# Altium schematic symbol library Schlib.SchLib: 37 symbols (part 4 of 4)
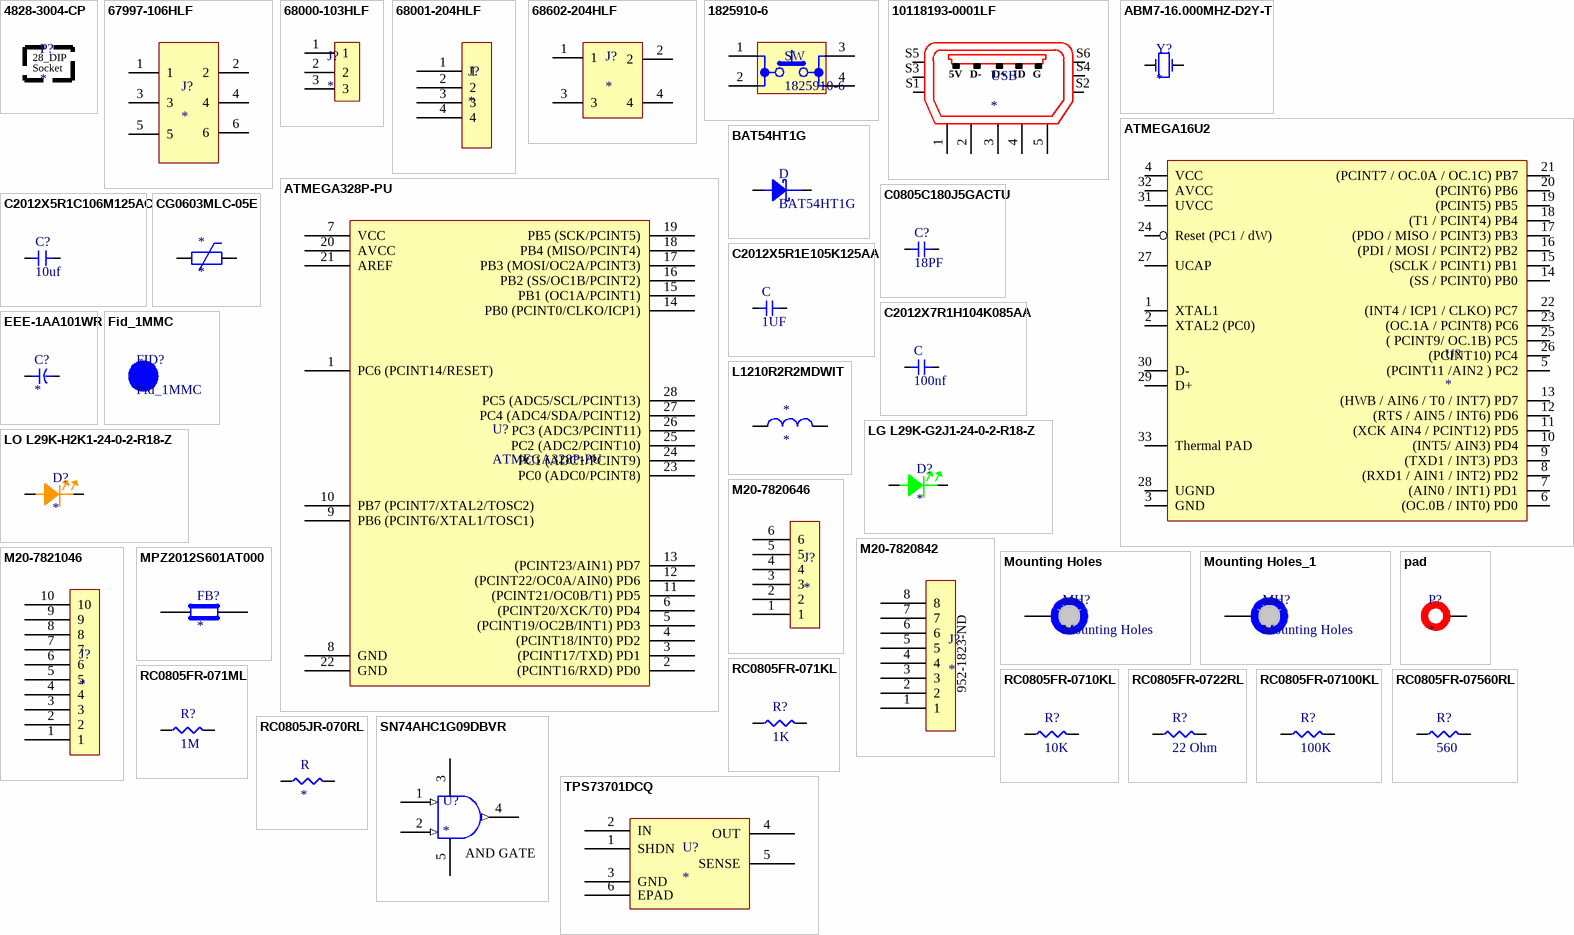
[diagram p3: symbols 4828-3004-CP to TPS73701DCQ]

## SN74AHC1G09DBVR
designator U?
1-ch, 2-input 2-V to 5.5-V high-speed (9 ns) AND gate with open-drain outputs 5-SOT-23 -55 to 125; Manufacturer: Texas Instruments; Manufacturer Part Number: SN74AHC1G09DBVR; Manufacturer Lifecycle Status: ACTIVE; Low Level Output Current: 8mA; Max Junction Temperature (Tj): 150°C; Max Supply Voltage: 5.5V; Min Supply Voltage: 2V; Nominal Supply Current: 1µA; Number of Bits: 1; Number of Inputs: 2; Output Current: 25mA; Propagation Delay: 4.6ns; Supplier 1: Arrow Electronics; RoHS: Compliant; Category: Logic Gates; Stock 1: 3; Pricing 1: 1=0.04 (USD); Ambient Temperature Range High: 125°C; Case/Package: SOT-23; Contact Plating: Tin; Height: 1.45mm; Lead Free: Lead Free; Length: 2.9mm; Lifecycle Status: Production; Logic Function: AND; Max Operating Temperature: 125°C; Min Operating Temperature: -55°C; Mount: Surface Mount; Number of Channels: 1; Number of Circuits: 1; Number of Elements: 1; Number of Gates: 1; Number of Outputs: 1; Number of Pins: 5; Output Voltage: 5.5V; Quiescent Current: 1µA; Radiation Hardening: No; REACH SVHC: No; Schedule B: 8542390000, 8542390000|8542390000|8542390000|8542390000|8542390000; Thickness: 1.2mm; Width: 1.6mm; ComponentLink1URL: https://sigma.octopart.com:443/177332311/technical_drawing/Texas-Instruments-SN74AHC1G09DBVR.pdf?src-supplier=Texas+Instruments; ComponentLink1Description: https://sigma.octopart.com:443/177332311/technical_drawing/Texas-Instruments-SN74AHC1G09DBVR.pdf?src-supplier=Texas+Instruments; ComponentLink2URL: https://octopart.com:443/opatz8j6/c1?t=L0Xi2RvRu8Qw2bZQUZEEiSubo051ntShcxDhO9UIYWrGm4Aalb6CVRY-OzDcgrflgwlN3NeHJfSCMu_zf08kyRY_HMG5hxIbCYHSgsuAqTeJsOj2I9BPz2QwrKnZHclgiJgJ3R_f9jPMwMx2S-2V4BzxsJFM7DFQVZ6AWOBElNrPP7IDG532tr2r0D6YaYxrLTduuSRCPQyUabvBQCW2vkPesCr-3PI72uJGfYHom96gh-ikychyHwwmevOZaMVQuDX6ZScYN0b-25bIuEC70LKLxNZnVnZt6sWJDhI3S59CEB92smmmNy-BXEUBWjmztVVkLHWce7jcadcnLtwQKsGXrJZC-4vWOeVLVNI_MPxmuwIx2inFAH7CCcW2USWv0SzEKBhQme3B&src-supplier=Texas+Instruments; ComponentLink2Description: https://octopart.com:443/opatz8j6/c1?t=L0Xi2RvRu8Qw2bZQUZEEiSubo051ntShcxDhO9UIYWrGm4Aalb6CVRY-OzDcgrflgwlN3NeHJfSCMu_zf08kyRY_HMG5hxIbCYHSgsuAqTeJsOj2I9BPz2QwrKnZHclgiJgJ3R_f9jPMwMx2S-2V4BzxsJFM7DFQVZ6AWOBElNrPP7IDG532tr2r0D6YaYxrLTduuSRCPQyUabvBQCW2vkPesCr-3PI72uJGfYHom96gh-ikychyHwwmevOZaMVQuDX6ZScYN0b-25bIuEC70LKLxNZnVnZt6sWJDhI3S59CEB92smmmNy-BXEUBWjmztVVkLHWce7jcadcnLtwQKsGXrJZC-4vWOeVLVNI_MPxmuwIx2inFAH7CCcW2USWv0SzEKBhQme3B&src-supplier=Texas+Instruments; ComponentLink3URL: https://datasheet.octopart.com:443/SN74AHC1G09DBVR-Texas-Instruments-datasheet-37726925.pdf?src-supplier=Texas+Instruments; ComponentLink3Description: https://datasheet.octopart.com:443/SN74AHC1G09DBVR-Texas-Instruments-datasheet-37726925.pdf?src-supplier=Texas+Instruments; ComponentLink4URL: https://sigma.octopart.com:443/175570406/technical_drawing/Texas-Instruments-SN74AHC1G09DBVR.pdf?src-supplier=Texas+Instruments; ComponentLink4Description: https://sigma.octopart.com:443/175570406/technical_drawing/Texas-Instruments-SN74AHC1G09DBVR.pdf?src-supplier=Texas+Instruments; ComponentLink5URL: https://sigma.octopart.com:443/169406034/technical_drawing/Texas-Instruments-SN74AHC1G09DBVR.pdf?src-supplier=Texas+Instruments; ComponentLink5Description: https://sigma.octopart.com:443/169406034/technical_drawing/Texas-Instruments-SN74AHC1G09DBVR.pdf?src-supplier=Texas+Instruments; ComponentLink6URL: https://sigma.octopart.com:443/155939316/technical_drawing/Texas-Instruments-SN74AHC1G09DBVR.pdf?src-supplier=Texas+Instruments; ComponentLink6Description: https://sigma.octopart.com:443/155939316/technical_drawing/Texas-Instruments-SN74AHC1G09DBVR.pdf?src-supplier=Texas+Instruments; ComponentLink7URL: https://sigma.octopart.com:443/102331370/technical_drawing/Texas-Instruments-SN74AHC1G09DBVR.pdf?src-supplier=Texas+Instruments; ComponentLink7Description: https://sigma.octopart.com:443/102331370/technical_drawing/Texas-Instruments-SN74AHC1G09DBVR.pdf?src-supplier=Texas+Instruments; ComponentLink8URL: https://sigma.octopart.com:443/49249325/technical_drawing/Texas-Instruments-SN74AHC1G09DBVR.pdf?src-supplier=Texas+Instruments; ComponentLink8Description: https://sigma.octopart.com:443/49249325/technical_drawing/Texas-Instruments-SN74AHC1G09DBVR.pdf?src-supplier=Texas+Instruments; ComponentLink9URL: https://datasheet.octopart.com:443/SN74AHC1G09DBVR-Texas-Instruments-datasheet-21221312.pdf?src-supplier=Upverter; ComponentLink9Description: https://datasheet.octopart.com:443/SN74AHC1G09DBVR-Texas-Instruments-datasheet-21221312.pdf?src-supplier=Upverter; ComponentLink10URL: https://datasheet.octopart.com:443/SN74AHC1G09DBVR-Texas-Instruments-datasheet-62088831.pdf?src-supplier=Newark; ComponentLink10Description: https://datasheet.octopart.com:443/SN74AHC1G09DBVR-Texas-Instruments-datasheet-62088831.pdf?src-supplier=Newark; ComponentLink11URL: https://datasheet.octopart.com:443/SN74AHC1G09DBVR-Texas-Instruments-datasheet-33010737.pdf?src-supplier=Newark; ComponentLink11Description: https://datasheet.octopart.com:443/SN74AHC1G09DBVR-Texas-Instruments-datasheet-33010737.pdf?src-supplier=Newark; ComponentLink12URL: https://datasheet.octopart.com:443/SN74AHC1G09DBVR-Texas-Instruments-datasheet-159115775.pdf?src-supplier=SHENGYU+ELECTRONICS; ComponentLink12Description: https://datasheet.octopart.com:443/SN74AHC1G09DBVR-Texas-Instruments-datasheet-159115775.pdf?src-supplier=SHENGYU+ELECTRONICS; ComponentLink13URL: https://datasheet.octopart.com:443/SN74AHC1G09DBVR-Texas-Instruments-datasheet-165804331.pdf?src-supplier=LCSC; ComponentLink13Description: https://datasheet.octopart.com:443/SN74AHC1G09DBVR-Texas-Instruments-datasheet-165804331.pdf?src-supplier=LCSC; ComponentLink14URL: https://datasheet.octopart.com:443/SN74AHC1G09DBVR-Texas-Instruments-datasheet-140571641.pdf?src-supplier=Arrow.cn; ComponentLink14Description: https://datasheet.octopart.com:443/SN74AHC1G09DBVR-Texas-Instruments-datasheet-140571641.pdf?src-supplier=Arrow.cn; ComponentLink15URL: https://datasheet.octopart.com:443/SN74AHC1G09DBVR-Texas-Instruments-datasheet-11780427.pdf?src-supplier=Arrow+Electronics; ComponentLink15Description: https://datasheet.octopart.com:443/SN74AHC1G09DBVR-Texas-Instruments-datasheet-11780427.pdf?src-supplier=Arrow+Electronics; ComponentLink16URL: http://sigma.octopart.com:80/conflict_mineral_statement/Texas-Instruments-company-63.pdf?src-supplier=Compliance+Statements; ComponentLink16Description: http://sigma.octopart.com:80/conflict_mineral_statement/Texas-Instruments-company-63.pdf?src-supplier=Compliance+Statements; ComponentLink17URL: http://sigma.octopart.com:80/reach_statement/Texas-Instruments-company-64.pdf?src-supplier=Compliance+Statements; ComponentLink17Description: http://sigma.octopart.com:80/reach_statement/Texas-Instruments-company-64.pdf?src-supplier=Compliance+Statements; Supplier Part Number 1: SN74AHC1G09DBVR
footprint AND
pins: 1 (in), 2 (in), 3, 4 (out), 5
text: AND GATE

## TPS73701DCQ
designator U?
Low Drop Out (LDO) Regulator Position 1.2 Volt to 5.5 Volt 1A 6-Pin(5+Tab) SOT-223; Manufacturer: Texas Instruments; Manufacturer Part Number: TPS73701DCQ; Manufacturer Lifecycle Status: ACTIVE; Accuracy: 3%; Dropout Voltage: 130mV; Input Bias Current: 300µA; Max Input Voltage: 5.5V; Max Power Dissipation: 2.22W; Min Current Limit: 1.05A; Min Input Voltage: 2.2V; Min Output Voltage: 1.2V; Number of Channels: 1; Output Type: Adjustable; Output Voltage Accuracy: 1%; Polarity: Positive; Reference Voltage: 1.21V; Supplier 1: DigiKey; RoHS: Compliant; Category: LDO Voltage Regulators; Stock 1: 8850; Pricing 1: 1=2.16, 10=1.596, 78=1.32397, 156=1.26244, 312=1.2117, 546=1.1774, 1014=1.14523, 2574=1.10623, 5070=1.08362 (USD); Case/Package: SOT-223; Height: 0m; Lead Free: Lead Free; Length: 6.5mm; Lifecycle Status: Production; Max Operating Temperature: 125°C; Max Output Current: 1A; Max Output Voltage: 5.5V; Min Operating Temperature: -40°C; Number of Outputs: 1; Number of Pins: 6; Number of Regulators: 1; Number of Terminals: 6; Output Current: 1A; Output Voltage: 5.5V; Packaging: Cut Tape; Power Dissipation: 2.22W; Quiescent Current: 300µA; Radiation Hardening: No; REACH SVHC: No; Schedule B: 8542390000, 8542390000|8542390000|8542390000|8542390000|8542390000; Thickness: 1.6mm; Width: 3.5mm; ComponentLink1URL: https://sigma.octopart.com:443/157894086/technical_drawing/Texas-Instruments-TPS73701DCQ.pdf?src-supplier=Texas+Instruments; ComponentLink1Description: https://sigma.octopart.com:443/157894086/technical_drawing/Texas-Instruments-TPS73701DCQ.pdf?src-supplier=Texas+Instruments; ComponentLink2URL: https://octopart.com:443/opatz8j6/c1?t=hmBGxB3vNeAR8k03AOvav_RJQX7ptKZaQgvml1ZqXAt7_z2gRYRi0l6fPE5vFvxGXk1BfyUW4QFoccelfSKIn2SKFMe18rBtW_lmNf0JWZFuSz4DBGNP41O4caayzhp-9Ko8kJHTk6YJLnF_eaGYfF_EVpRZWDWERMfesqHW7U3X9p6alRQCAQiIJRfEMaiRurpEkKNSvrMbkWWaGgqSqjFMGtI9r6l3oV1d72_VwIJ0TUMExH3QuoKMCc9t0do_GTNlDQp4XFWYwY67vNaOoPYzEyPiDjF0zudJFVMWJ1kMZKaIHfIvEoJgNOYHXklaCoyGeIPDAvIVjN5wprSTt3Yj5BontLojJoJsSihoRJlgy7lvrLz4D6ZNpsaz4knkxug&src-supplier=Texas+Instruments; ComponentLink2Description: https://octopart.com:443/opatz8j6/c1?t=hmBGxB3vNeAR8k03AOvav_RJQX7ptKZaQgvml1ZqXAt7_z2gRYRi0l6fPE5vFvxGXk1BfyUW4QFoccelfSKIn2SKFMe18rBtW_lmNf0JWZFuSz4DBGNP41O4caayzhp-9Ko8kJHTk6YJLnF_eaGYfF_EVpRZWDWERMfesqHW7U3X9p6alRQCAQiIJRfEMaiRurpEkKNSvrMbkWWaGgqSqjFMGtI9r6l3oV1d72_VwIJ0TUMExH3QuoKMCc9t0do_GTNlDQp4XFWYwY67vNaOoPYzEyPiDjF0zudJFVMWJ1kMZKaIHfIvEoJgNOYHXklaCoyGeIPDAvIVjN5wprSTt3Yj5BontLojJoJsSihoRJlgy7lvrLz4D6ZNpsaz4knkxug&src-supplier=Texas+Instruments; ComponentLink3URL: https://datasheet.octopart.com:443/TPS73701DCQ-Texas-Instruments-datasheet-16941428.pdf?src-supplier=Texas+Instruments; ComponentLink3Description: https://datasheet.octopart.com:443/TPS73701DCQ-Texas-Instruments-datasheet-16941428.pdf?src-supplier=Texas+Instruments; ComponentLink4URL: https://datasheet.octopart.com:443/TPS73701DCQ-Texas-Instruments-datasheet-12505664.pdf?src-supplier=Texas+Instruments; ComponentLink4Description: https://datasheet.octopart.com:443/TPS73701DCQ-Texas-Instruments-datasheet-12505664.pdf?src-supplier=Texas+Instruments; ComponentLink5URL: https://datasheet.octopart.com:443/TPS73701DCQ-Texas-Instruments-datasheet-11514854.pdf?src-supplier=Texas+Instruments; ComponentLink5Description: https://datasheet.octopart.com:443/TPS73701DCQ-Texas-Instruments-datasheet-11514854.pdf?src-supplier=Texas+Instruments; ComponentLink6URL: https://datasheet.octopart.com:443/TPS73701DCQ-Texas-Instruments-datasheet-10941719.pdf?src-supplier=Texas+Instruments; ComponentLink6Description: https://datasheet.octopart.com:443/TPS73701DCQ-Texas-Instruments-datasheet-10941719.pdf?src-supplier=Texas+Instruments; ComponentLink7URL: https://sigma.octopart.com:443/49257225/technical_drawing/Texas-Instruments-TPS73701DCQ.pdf?src-supplier=Texas+Instruments; ComponentLink7Description: https://sigma.octopart.com:443/49257225/technical_drawing/Texas-Instruments-TPS73701DCQ.pdf?src-supplier=Texas+Instruments; ComponentLink8URL: https://datasheet.octopart.com:443/TPS73701DCQ-Texas-Instruments-datasheet-149105.pdf?src-supplier=Texas+Instruments; ComponentLink8Description: https://datasheet.octopart.com:443/TPS73701DCQ-Texas-Instruments-datasheet-149105.pdf?src-supplier=Texas+Instruments; ComponentLink9URL: https://datasheet.octopart.com:443/TPS73701DCQ-Texas-Instruments-datasheet-143558.pdf?src-supplier=Texas+Instruments; ComponentLink9Description: https://datasheet.octopart.com:443/TPS73701DCQ-Texas-Instruments-datasheet-143558.pdf?src-supplier=Texas+Instruments; ComponentLink10URL: https://datasheet.octopart.com:443/TPS73701DCQ-Texas-Instruments-datasheet-41218819.pdf?src-supplier=Farnell; ComponentLink10Description: https://datasheet.octopart.com:443/TPS73701DCQ-Texas-Instruments-datasheet-41218819.pdf?src-supplier=Farnell; ComponentLink11URL: https://datasheet.octopart.com:443/TPS73701DCQ-Texas-Instruments-datasheet-10254104.pdf?src-supplier=Farnell; ComponentLink11Description: https://datasheet.octopart.com:443/TPS73701DCQ-Texas-Instruments-datasheet-10254104.pdf?src-supplier=Farnell; ComponentLink12URL: https://datasheet.octopart.com:443/TPS73701DCQ-Texas-Instruments-datasheet-66617910.pdf?src-supplier=Farnell; ComponentLink12Description: https://datasheet.octopart.com:443/TPS73701DCQ-Texas-Instruments-datasheet-66617910.pdf?src-supplier=Farnell; ComponentLink13URL: https://datasheet.octopart.com:443/TPS73701DCQ.-Texas-Instruments-datasheet-32751093.pdf?src-supplier=element14+APAC; ComponentLink13Description: https://datasheet.octopart.com:443/TPS73701DCQ.-Texas-Instruments-datasheet-32751093.pdf?src-supplier=element14+APAC; ComponentLink14URL: https://datasheet.octopart.com:443/TPS73701DCQ-Texas-Instruments-datasheet-164420735.pdf?src-supplier=Augswan; ComponentLink14Description: https://datasheet.octopart.com:443/TPS73701DCQ-Texas-Instruments-datasheet-164420735.pdf?src-supplier=Augswan; ComponentLink15URL: https://datasheet.octopart.com:443/TPS73701DCQ-Texas-Instruments-datasheet-14440400.pdf?src-supplier=Newark; ComponentLink15Description: https://datasheet.octopart.com:443/TPS73701DCQ-Texas-Instruments-datasheet-14440400.pdf?src-supplier=Newark; ComponentLink16URL: https://datasheet.octopart.com:443/TPS73701DCQ-Texas-Instruments-datasheet-8773970.pdf?src-supplier=Newark; ComponentLink16Description: https://datasheet.octopart.com:443/TPS73701DCQ-Texas-Instruments-datasheet-8773970.pdf?src-supplier=Newark; ComponentLink17URL: https://datasheet.octopart.com:443/TPS73701DCQ-Texas-Instruments-datasheet-8623796.pdf?src-supplier=Newark; ComponentLink17Description: https://datasheet.octopart.com:443/TPS73701DCQ-Texas-Instruments-datasheet-8623796.pdf?src-supplier=Newark; ComponentLink18URL: https://datasheet.octopart.com:443/TPS73701DCQ.-Texas-Instruments-datasheet-59338205.pdf?src-supplier=Newark; ComponentLink18Description: https://datasheet.octopart.com:443/TPS73701DCQ.-Texas-Instruments-datasheet-59338205.pdf?src-supplier=Newark; ComponentLink19URL: https://datasheet.octopart.com:443/TPS73701DCQ-Texas-Instruments-datasheet-14168934.pdf?src-supplier=iiiC; ComponentLink19Description: https://datasheet.octopart.com:443/TPS73701DCQ-Texas-Instruments-datasheet-14168934.pdf?src-supplier=iiiC; ComponentLink20URL: https://datasheet.octopart.com:443/TPS73701DCQ-Texas-Instruments-datasheet-10391063.pdf?src-supplier=Jameco; ComponentLink20Description: https://datasheet.octopart.com:443/TPS73701DCQ-Texas-Instruments-datasheet-10391063.pdf?src-supplier=Jameco; ComponentLink21URL: https://datasheet.octopart.com:443/TPS73701DCQ-Texas-Instruments-datasheet-81744.pdf?src-supplier=DigiKey; ComponentLink21Description: https://datasheet.octopart.com:443/TPS73701DCQ-Texas-Instruments-datasheet-81744.pdf?src-supplier=DigiKey; ComponentLink22URL: http://sigma.octopart.com:80/conflict_mineral_statement/Texas-Instruments-company-63.pdf?src-supplier=Compliance+Statements; ComponentLink22Description: http://sigma.octopart.com:80/conflict_mineral_statement/Texas-Instruments-company-63.pdf?src-supplier=Compliance+Statements; ComponentLink23URL: http://sigma.octopart.com:80/reach_statement/Texas-Instruments-company-64.pdf?src-supplier=Compliance+Statements; ComponentLink23Description: http://sigma.octopart.com:80/reach_statement/Texas-Instruments-company-64.pdf?src-supplier=Compliance+Statements; Supplier Part Number 1: 296-19481-5-ND
footprint LDO
pins: 1 SHDN, 2 IN, 3 GND, 4 OUT, 5 SENSE, 6 EPAD